# Altium schematic symbol library CC0603KRX7R9BB301.SchLib: 1 symbol
Pins are listed as number, name and electrical type; pins without a type are passive.

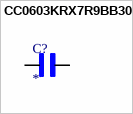
[diagram p0: symbol CC0603KRX7R9BB301]

## CC0603KRX7R9BB301
designator C?
MF: {'manufacturer': u'Yageo'}; MP: CC0603KRX7R9BB301; Package: None; Price: None; Value: *; Availability: Unavailable
footprint CAPC1608X90
pins: 1, 2